# Altium footprint library Sheye-Capacitor.PcbLib: 52 footprints (part 1 of 4)
Each footprint in its own frame and in the unit in brackets; x right, y up, seen from the top. Pads: shape width x height; smd on the part's side, far side on the other; paste and mask are expansions set on the pad; w line width, h text height; cw(c..) or ccw(c..) is an arc to the next point about the centre after c.
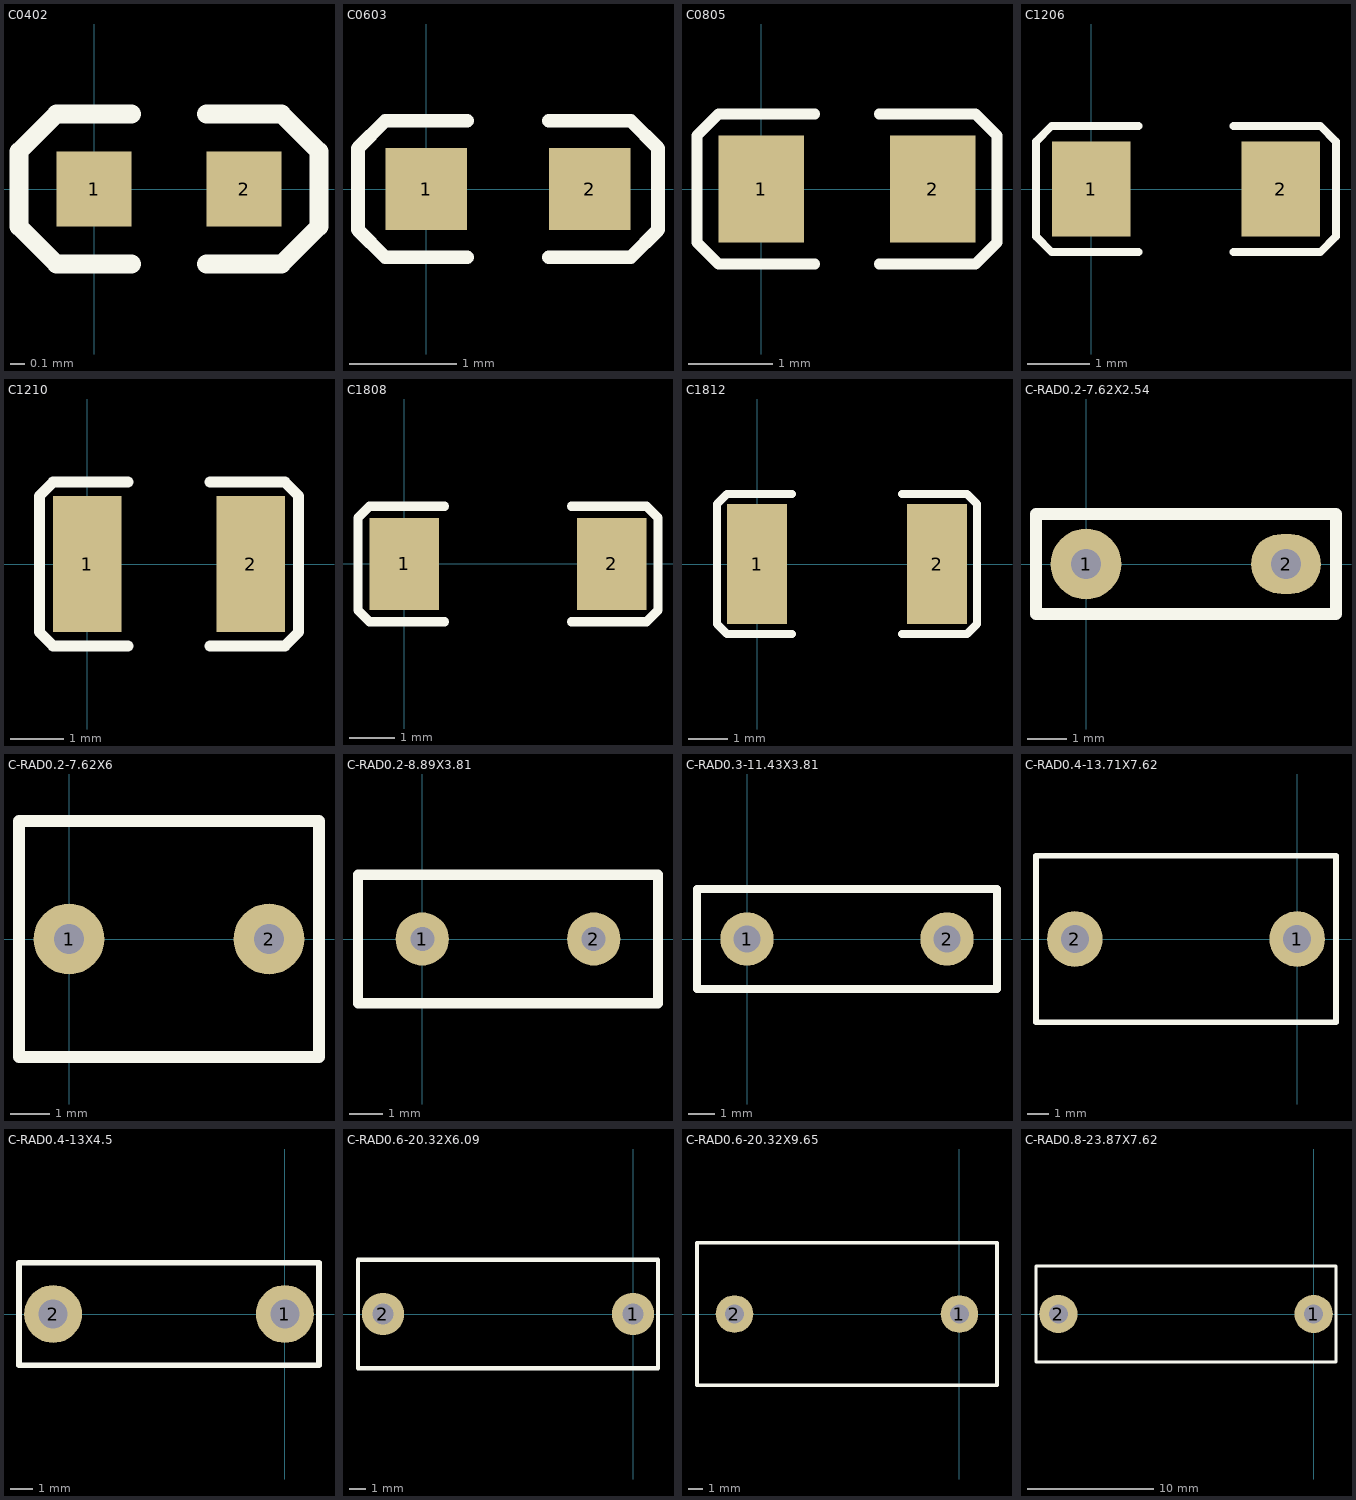
[diagram p0: the footprints below, top view; thin cyan lines are the x and y axes]

## C0402 [mil]
height 10
pads (2):
  rect 20x20 smd: 1(0,0) 2(40,0)
Top Overlay:
  lines w5: 10,-20 -10,-20 -20,-10 -20,10 -10,20 10,20 ; 30,-20 50,-20 60,-10 60,-5 60,10 50,20 30,20
3D body: height 19.84, standoff 0.16, extent 0.32,-10 39.69,10.08

## C0603 [mil]
height 12
pads (2):
  rect 30x30 smd: 1(0,0) 2(60,0)
Top Overlay:
  lines w5: 15,-25 -15,-25 -25,-15 -25,15 -15,25 15,25 ; 45,-25 75,-25 85,-15 85,15 75,25 45,25
3D body: height 11.89, standoff 0, extent -1.5,-15.5 61.5,16

## C0805 [mil]
height 15
pads (2):
  rect 40x50 smd: 1(0,0) 2(80,0)
Top Overlay:
  lines w5: 25,-35 -20,-35 -30,-25 -30,25 -20,35 25,35 ; 55,-35 100,-35 110,-25 110,25 100,35 55,35
3D body: height 37.4, standoff 0, extent 0.63,-23.24 79.37,24

## C1206 [mil]
height 20
pads (2):
  rect 50x60 smd: 1(0,0) 2(120,0)
Top Overlay:
  lines w5: 30,-40 -25,-40 -35,-30 -35,30 -25,40 30,40 ; 90,-40 145,-40 155,-30 155,30 145,40 90,40
3D body: height 39.45, standoff 0, extent -2.99,-31.99 122.99,31

## C1210 [mil]
height 20
pads (2):
  rect 50x100 smd: 1(0,0) 2(120,0)
Top Overlay:
  lines w8: 30,-60 -25,-60 -35,-50 -35,50 -25,60 30,60 ; 90,-60 145,-60 155,-50 155,50 145,60 90,60
3D body: height 98.43, standoff 0, extent -2.99,-48.43 122.99,50

## C1808 [mil]
height 20
pads (2):
  rect 60x80 smd: 1(0,0) 2(180,0)
Top Overlay:
  lines w8: 35,-50 -30,-50 -40,-40 -40,40 -30,50 35,50 ; 145,-50 210,-50 220,-40 220,40 210,50 145,50
3D body: height 79.37, standoff 0.63, extent 0,-36.99 177.17,41.75

## C1812 [mil]
height 20
pads (2):
  rect 60x120 smd: 1(0,0) 2(180,0)
Top Overlay:
  lines w8: 35,-70 -30,-70 -40,-60 -40,60 -30,70 35,70 ; 145,-70 210,-70 220,-60 220,60 210,70 145,70
3D body: height 98.43, standoff 0, extent 0,-61.99 177.17,63.99

## C-RAD0.2-7.62X2.54 [mil] "RAD0.2(0.3/0.1)"
pads (2):
  round 70.87 hole 30: 1(0,0)
  oval 70x60 hole 30: 2(200,0)
Top Overlay:
  lines w12: -50,-50 250,-50 250,50 -50,50 -50,-50
3D body: height 10, standoff -100, extent 190,-10 209.92,9.96
3D body: height 10, standoff -100, extent -10,-10 9.92,9.96
3D body: height 300, standoff 10, extent -40,-40 240,40

## C-RAD0.2-7.62X6 [mm] "RAD0.2(0.3/0.23)"
pads (2):
  round 1.8 hole 0.762: 1(0,0) 2(5.08,0)
Top Overlay:
  lines w0.305: -1.27,-3 6.35,-3 ; -1.27,-2.921 -1.27,2.921 ; -1.27,3 6.35,3 ; 6.35,-2.921 6.35,2.921
3D body: height 0.25, standoff -2.54, extent -0.254,-0.254 0.252,0.253
3D body: height 0.25, standoff -2.54, extent 4.826,-0.254 5.332,0.253
3D body: height 7.62, standoff 0.25, extent -1.016,-2.667 6.096,2.667

## C-RAD0.2-8.89X3.81 [mil] "RAD0.2"
pads (2):
  round 62 hole 28: 1(0,0) 2(200,0)
Top Overlay:
  lines w12: -75,-75 275,-75 275,75 -75,75 -75,-75
3D body: height 300, standoff 10, extent -60,-60 260,60
3D body: height 10, standoff -100, extent 190,-10 209.92,9.96
3D body: height 10, standoff -100, extent -10,-10 9.92,9.96

## C-RAD0.3-11.43X3.81 [mil] "RAD0.3"
pads (2):
  round 80 hole 40: 1(0,0) 2(300,0)
Top Overlay:
  lines w12: -75,-75 -75,75 375,75 375,-75 -75,-75
3D body: height 10, standoff -100, extent 290,-10 309.92,9.96
3D body: height 10, standoff -100, extent -10,-10 9.92,9.96
3D body: height 300, standoff 10, extent -60,-60 360,60

## C-RAD0.4-13.71X7.62 [mil] "RAD0.4(0.5/0.3)"
pads (2):
  round 100 hole 50: 1(0,0) 2(-400,0)
Top Overlay:
  lines w10: -470,-150 -470,150 70,150 70,-150 -470,-150
3D body: height 10, standoff -100, extent -10,-10 9.92,9.96
3D body: height 10, standoff -100, extent -410,-10 -390.08,9.96
3D body: height 500, standoff 3, extent -455,-135 55,130

## C-RAD0.4-13X4.5 [mil] "RAD0.4(0.5/0.3)"
pads (2):
  round 100 hole 50: 1(0,0) 2(-400,0)
Top Overlay:
  lines w10: -459.06,-88.58 -459.06,88.58 59.06,88.58 59.06,-88.58 -459.06,-88.58
3D body: height 10, standoff -100, extent -10,-10 9.92,9.96
3D body: height 10, standoff -100, extent -410,-10 -390.08,9.96
3D body: height 500, standoff 3, extent -455,-88.58 55,88.58

## C-RAD0.6-20.32X6.09 [mm] "RAD0.6(0.8/0.23)"
pads (2):
  round 2.54 hole 1.27: 1(0,0) 2(-15,0)
Top Overlay:
  lines w0.254: -16.5,-3.25 -16.5,3.25 1.5,3.25 1.5,-3.25 -16.5,-3.25
3D body: height 0.25, standoff -2.54, extent -15.494,-0.254 -14.988,0.253
3D body: height 0.25, standoff -2.54, extent -0.254,-0.254 0.252,0.253
3D body: height 12.7, standoff 0.08, extent -16.5,-3.25 1.5,3.25

## C-RAD0.6-20.32X9.65 [mil] "RAD0.6(0.8/0.4)"
pads (2):
  round 100 hole 50: 1(0,0) 2(-600,0)
Top Overlay:
  lines w10: -700,-190 100,-190 100,190 -700,190 -700,-190
3D body: height 500, standoff 3, extent -685,-175 85,175
3D body: height 10, standoff -100, extent -10,-10 9.92,9.96
3D body: height 10, standoff -100, extent -610,-10 -590.08,9.96

## C-RAD0.8-23.87X7.62 [mil] "RAD0.8(0.9/0.3)"
pads (2):
  round 120 hole 60: 1(0,0) 2(-800,0)
Top Overlay:
  lines w10: -870,-150 -870,150 70,150 70,-150 -870,-150
3D body: height 10, standoff -100, extent -810,-10 -790.08,9.96
3D body: height 10, standoff -100, extent -10,-10 9.92,9.96
3D body: height 500, standoff 3, extent -860,-135 60,135